# EAGLE library part AD5160BRJZ10-RL7 (library SamacSys_Parts)
256-Position SPI-Compatible Digital Potentiometer Source: Datasheet <http://www.analog.com/media/en/technical-documentation/data-sheets/AD5160.pdf>
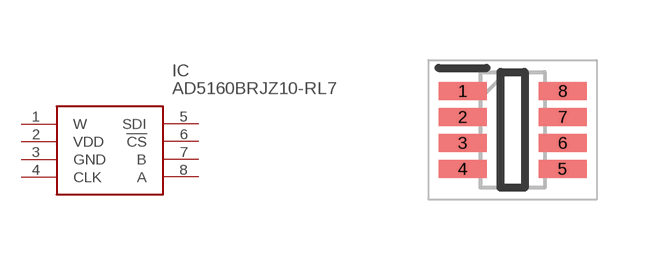
[diagram p99: symbol with the pads of SOT65P280X145-8N; footprint SOT65P280X145-8N]

Designator prefix IC

## AD5160BRJZ10-RL7 (DESCRIPTION: 256-Position SPI-Compatible Digital Potentiometer; HEIGHT: 1.45mm; MANUFACTURER_NAME: Analog Devices; MANUFACTURER_PART_NUMBER: AD5160BRJZ10-RL7; MOUSER_PART_NUMBER: 584-AD5160BRJZ10-R7; MOUSER_PRICE-STOCK: https://www.mouser.co.uk/ProductDetail/Analog-Devices/AD5160BRJZ10-RL7?qs=NmRFExCfTkHhwD179eNY3Q%3D%3D)  [SOT65P280X145-8N]
1  W
2  VDD  pwr
3  GND  pwr
4  CLK  in
5  SDI
6  !CS  in
7  B
8  A

## Footprint SOT65P280X145-8N (pad centres in mm)
DCN (R-PDSO-G8)
smd 1.2 x 0.45: 1 -1.25,0.975; 2 -1.25,0.325; 3 -1.25,-0.325; 4 -1.25,-0.975; 5 1.25,-0.975; 6 1.25,-0.325; 7 1.25,0.325; 8 1.25,0.975